# Altium schematic symbol library Board Extenders.SchLib: 1 symbol
Pins are listed as number, name and electrical type; pins without a type are passive.

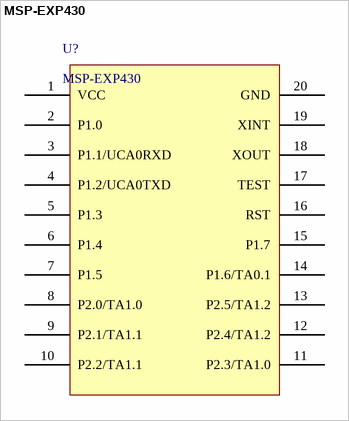
[diagram p0: symbol MSP-EXP430]

## MSP-EXP430
designator U?
MSP-EXP430 Connectors
footprint MSP-EXP430
pins: 1 VCC, 2 P1.0, 3 P1.1/UCA0RXD, 4 P1.2/UCA0TXD, 5 P1.3, 6 P1.4, 7 P1.5, 8 P2.0/TA1.0, 9 P2.1/TA1.1, 10 P2.2/TA1.1, 11 P2.3/TA1.0, 12 P2.4/TA1.2, 13 P2.5/TA1.2, 14 P1.6/TA0.1, 15 P1.7, 16 RST, 17 TEST, 18 XOUT, 19 XINT, 20 GND